# Altium schematic symbol library Трансформаторы импульсные (открытого исполнения).SCHLIB: 37 symbols
Pins are listed as number, name and electrical type; pins without a type are passive.

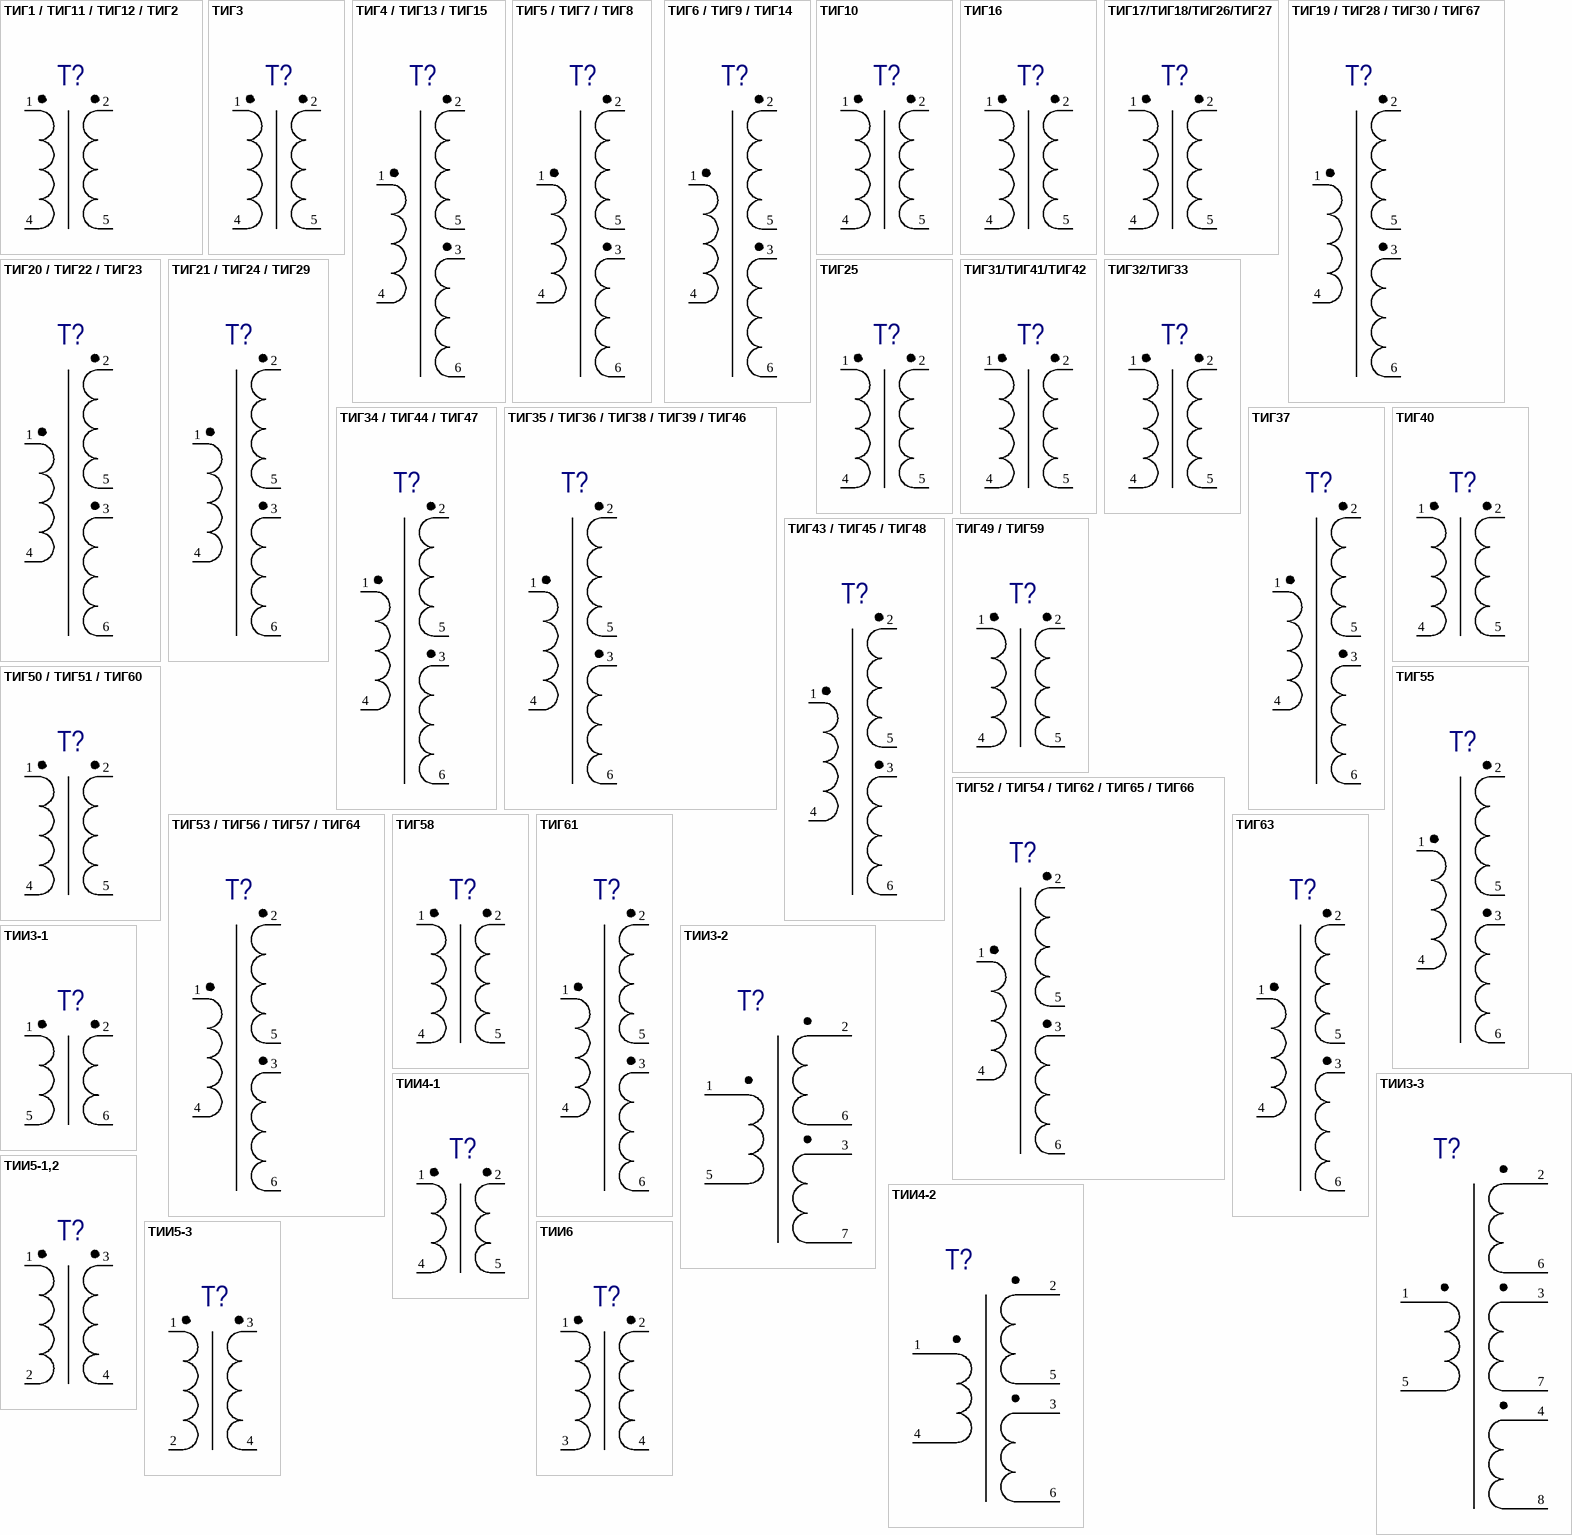
[diagram p0: symbols ТИГ1 / ТИГ11 / ТИГ12 / ТИГ2 to ТИИ6]

## ТИГ1 / ТИГ11 / ТИГ12 / ТИГ2
designator T?
Коэф.трансф-и: 1/0,5/0,335/0,5; Manufacturer: ПАО  «МСТАТОР»; ManufacturerCountry: Россия; Value: {Value}; Наименование элемента: ТИГ; Category: Трансформатор импульсный; ComponentLink1Description: Manufacturer Link; ComponentHeight: 1,8 мм
footprint ТИГ1/ТИГ11/ТИГ12/ТИГ2 (4,2x4,2x1,8, 0.05g)
pins: 1, 2, 4, 5

## ТИГ3
designator T?
Коэф.трансф-и: 0,335; Manufacturer: ПАО  «МСТАТОР»; ManufacturerCountry: Россия; Value: {Value}; Наименование элемента: ТИГ 3; Category: Трансформатор импульсный; ComponentLink1Description: Manufacturer Link; ComponentHeight: 1,6 мм
footprint ТИГ 3 (4x4x1.6, 0.05g)
pins: 1, 2, 4, 5

## ТИГ4 / ТИГ13 / ТИГ15
designator T?
Коэф.трансф-и: 1,0;0,1/0,5;0,5/0,67;0,335; Manufacturer: ПАО  «МСТАТОР»; ManufacturerCountry: Россия; Value: {Value}; Наименование элемента: ТИГ; Category: Трансформатор импульсный; ComponentLink1Description: Manufacturer Link; ComponentHeight: 2,0 мм
footprint ТИГ4/ТИГ13/ТИГ15 (4,3x4,3x2,0, 0.06g)
pins: 1, 2, 3, 4, 5, 6

## ТИГ5 / ТИГ7 / ТИГ8
designator T?
Коэф.трансф-и: 0,5;0,5/0,335;0,335/0,67;0,335; Manufacturer: ПАО  «МСТАТОР»; ManufacturerCountry: Россия; Value: {Value}; Наименование элемента: ТИГ; Category: Трансформатор импульсный; ComponentLink1Description: Manufacturer Link; ComponentHeight: 1,8 мм
footprint ТИГ5/ТИГ7/ТИГ8 (4,2x4,2x1,8, 0.05g)
pins: 1, 2, 3, 4, 5, 6

## ТИГ6 / ТИГ9 / ТИГ14
designator T?
Коэф.трансф-и: 1,0;0,5/1,0;0,335/0,335;0,335; Manufacturer: ПАО  «МСТАТОР»; ManufacturerCountry: Россия; Value: {Value}; Наименование элемента: ТИГ; Category: Трансформатор импульсный; ComponentLink1Description: Manufacturer Link; ComponentHeight: 2,0 мм
footprint ТИГ6/ТИГ9/ТИГ14 (4,2x4,2x2,0, 0.06g)
pins: 1, 2, 3, 4, 5, 6

## ТИГ10
designator T?
Коэф.трансф-и: 1,0; Manufacturer: ПАО  «МСТАТОР»; ManufacturerCountry: Россия; Value: {Value}; Наименование элемента: ТИГ 10; Category: Трансформатор импульсный; ComponentLink1Description: Manufacturer Link; ComponentHeight: 2,0 мм
footprint ТИГ10 (4,3x4,3x2,0, 0.06g)
pins: 1, 2, 4, 5

## ТИГ16
designator T?
Коэф.трансф-и: 1,0; Manufacturer: ПАО  «МСТАТОР»; ManufacturerCountry: Россия; Value: {Value}; Наименование элемента: ТИГ16; Category: Трансформатор импульсный; ComponentLink1Description: Manufacturer Link; ComponentHeight: 2,1 мм
footprint ТИГ16 (4,2x4,2x2,1, 0.06g)
pins: 1, 2, 4, 5

## ТИГ17/ТИГ18/ТИГ26/ТИГ27
designator T?
Коэф.трансф-и: 0,5/0,335/0,5/0,335; Manufacturer: ПАО  «МСТАТОР»; ManufacturerCountry: Россия; Value: {Value}; Наименование элемента: ТИГ; Category: Трансформатор импульсный; ComponentLink1Description: Manufacturer Link; ComponentHeight: 2,1 мм
footprint ТИГ17/ТИГ18/ТИГ26/ТИГ27 (4,2x4,2x2,1, 0.06g)
pins: 1, 2, 4, 5

## ТИГ19 / ТИГ28 / ТИГ30 / ТИГ67
designator T?
Коэф.трансф-и: 1,0;1,0/0,5;0,5/0,67;0,335/0,167:0,167; Manufacturer: ПАО  «МСТАТОР»; ManufacturerCountry: Россия; Value: {Value}; Наименование элемента: ТИГ; Category: Трансформатор импульсный; ComponentLink1Description: Manufacturer Link; ComponentHeight: 2,3 мм
footprint ТИГ19/ТИГ28/ТИГ30/ТИГ67 (4,3x4,3x2,3, 0.08g)
pins: 1, 2, 3, 4, 5, 6

## ТИГ20 / ТИГ22 / ТИГ23
designator T?
Коэф.трансф-и: 0.5;0,5/0.335;0,335/0,67;0,335; Manufacturer: ПАО  «МСТАТОР»; ManufacturerCountry: Россия; Value: {Value}; Наименование элемента: ТИГ; Category: Трансформатор импульсный; ComponentLink1Description: Manufacturer Link; ComponentHeight: 2,1 мм
footprint ТИГ20/ТИГ22/ТИГ23 (4,2x4,2x2,1, 0.06g)
pins: 1, 2, 3, 4, 5, 6

## ТИГ21 / ТИГ24 / ТИГ29
designator T?
Коэф.трансф-и: 1,0;0,5/1,0;0,335/0,335;0,335; Manufacturer: ПАО  «МСТАТОР»; ManufacturerCountry: Россия; Value: {Value}; Наименование элемента: ТИГ; Category: Трансформатор импульсный; ComponentLink1Description: Manufacturer Link; ComponentHeight: 2,2 мм
footprint ТИГ21/ТИГ24/ТИГ29 (4,2x4,2x2,2, 0.08g)
pins: 1, 2, 3, 4, 5, 6

## ТИГ25
designator T?
Коэф.трансф-и: 1,0; Manufacturer: ПАО  «МСТАТОР»; ManufacturerCountry: Россия; Value: {Value}; Наименование элемента: ТИГ25; Category: Трансформатор импульсный; ComponentLink1Description: Manufacturer Link; ComponentHeight: 2,3 мм
footprint ТИГ25 (4,3x4,3x2,3, 0.08g)
pins: 1, 2, 4, 5

## ТИГ31/ТИГ41/ТИГ42
designator T?
Коэф.трансф-и: 1,0/0,5/0,335; Manufacturer: ПАО  «МСТАТОР»; ManufacturerCountry: Россия; Value: {Value}; Наименование элемента: ТИГ; Category: Трансформатор импульсный; ComponentLink1Description: Manufacturer Link; ComponentHeight: 2,4 мм
footprint ТИГ31/ТИГ41/ТИГ42 (5,4x5,4x2,4, 0.12g)
pins: 1, 2, 4, 5

## ТИГ32/ТИГ33
designator T?
Коэф.трансф-и: 0,5/0,335; Manufacturer: ПАО  «МСТАТОР»; ManufacturerCountry: Россия; Value: {Value}; Наименование элемента: ТИГ; Category: Трансформатор импульсный; ComponentLink1Description: Manufacturer Link; ComponentHeight: 2,2 мм
footprint ТИГ32/ТИГ33 (5,4x5,4x2,2, 0.12g)
pins: 1, 2, 4, 5

## ТИГ34 / ТИГ44 / ТИГ47
designator T?
Коэф.трансф-и: 1,0;1,0/0,5;0,5/0,67;0,335; Manufacturer: ПАО  «МСТАТОР»; ManufacturerCountry: Россия; Value: {Value}; Наименование элемента: ТИГ; Category: Трансформатор импульсный; ComponentLink1Description: Manufacturer Link; ComponentHeight: 2,5 мм
footprint ТИГ34/ТИГ44/ТИГ47 (5,6x5,6x2,5, 0.12g)
pins: 1, 2, 3, 4, 5, 6

## ТИГ35 / ТИГ36 / ТИГ38 / ТИГ39 / ТИГ46
designator T?
Коэф.трансф-и: 0,5;0,5/1,0;0,5/0,67;0,335/1,0:0,335/0,335;0,335; Manufacturer: ПАО  «МСТАТОР»; ManufacturerCountry: Россия; Value: {Value}; Наименование элемента: ТИГ; Category: Трансформатор импульсный; ComponentLink1Description: Manufacturer Link; ComponentHeight: 2,4 мм
footprint ТИГ35/ТИГ36/ТИГ38/ТИГ39/ТИГ46 (5,4x5,4x2,4, 0.12g)
pins: 1, 2, 3, 4, 5, 6

## ТИГ37
designator T?
Коэф.трансф-и: 0,335/0,335; Manufacturer: ПАО  «МСТАТОР»; ManufacturerCountry: Россия; Value: {Value}; Наименование элемента: ТИГ; Category: Трансформатор импульсный; ComponentLink1Description: Manufacturer Link; ComponentHeight: 2,2 мм
footprint ТИГ37 (5,4x5,4x2,2, 0.12g)
pins: 1, 2, 3, 4, 5, 6

## ТИГ40
designator T?
Коэф.трансф-и: 1,0; Manufacturer: ПАО  «МСТАТОР»; ManufacturerCountry: Россия; Value: {Value}; Наименование элемента: ТИГ; Category: Трансформатор импульсный; ComponentLink1Description: Manufacturer Link; ComponentHeight: 2,5 мм
footprint ТИГ40 (5,6x5,6x2,5, 0.12g)
pins: 1, 2, 4, 5

## ТИГ43 / ТИГ45 / ТИГ48
designator T?
Коэф.трансф-и: 1,0;1,0/1,0;0,5/1,0;0,335; Manufacturer: ПАО  «МСТАТОР»; ManufacturerCountry: Россия; Value: {Value}; Наименование элемента: ТИГ; Category: Трансформатор импульсный; ComponentLink1Description: Manufacturer Link; ComponentHeight: 2,6 мм
footprint ТИГ43/ТИГ45/ТИГ48 (5,6x5,6x2,6, 0.15g)
pins: 1, 2, 3, 4, 5, 6

## ТИГ49 / ТИГ59
designator T?
Коэф.трансф-и: 1,0/0,5; Manufacturer: ПАО  «МСТАТОР»; ManufacturerCountry: Россия; Value: {Value}; Наименование элемента: ТИГ; Category: Трансформатор импульсный; ComponentLink1Description: Manufacturer Link; ComponentHeight: 2,5 мм
footprint ТИГ49/ТИГ59 (6,4x6,4x2,5, 0.18g)
pins: 1, 2, 4, 5

## ТИГ50 / ТИГ51 / ТИГ60
designator T?
Коэф.трансф-и: 0,5/0,335/0,335; Manufacturer: ПАО  «МСТАТОР»; ManufacturerCountry: Россия; Value: {Value}; Наименование элемента: ТИГ; Category: Трансформатор импульсный; ComponentLink1Description: Manufacturer Link; ComponentHeight: 2,4 мм
footprint ТИГ50/ТИГ51/ТИГ60 (6,4x6,4x2,4, 0.18g)
pins: 1, 2, 4, 5

## ТИГ52 / ТИГ54 / ТИГ62 / ТИГ65 / ТИГ66
designator T?
Коэф.трансф-и: 1,0;1,0/1,0;0,5/0,5;0,5/0,67:0,335/1,0:0,335; Manufacturer: ПАО  «МСТАТОР»; ManufacturerCountry: Россия; Value: {Value}; Наименование элемента: ТИГ; Category: Трансформатор импульсный; ComponentLink1Description: Manufacturer Link; ComponentHeight: 2,6 мм
footprint ТИГ52/ТИГ54/ТИГ62/ТИГ65/ТИГ66 (6,5x6,5x2,6, 0.2g)
pins: 1, 2, 3, 4, 5, 6

## ТИГ53 / ТИГ56 / ТИГ57 / ТИГ64
designator T?
Коэф.трансф-и: 0,5;0,5/0,67;0,335/1,0;0,335/0,335:0,335; Manufacturer: ПАО  «МСТАТОР»; ManufacturerCountry: Россия; Value: {Value}; Наименование элемента: ТИГ; Category: Трансформатор импульсный; ComponentLink1Description: Manufacturer Link; ComponentHeight: 2,5 мм
footprint ТИГ53/ТИГ56/ТИГ57/ТИГ64 (6,4x6,4x2,5, 0.18g)
pins: 1, 2, 3, 4, 5, 6

## ТИГ55
designator T?
Коэф.трансф-и: 0,335/0,335; Manufacturer: ПАО  «МСТАТОР»; ManufacturerCountry: Россия; Value: {Value}; Наименование элемента: ТИГ55; Category: Трансформатор импульсный; ComponentLink1Description: Manufacturer Link; ComponentHeight: 2,4 мм
footprint ТИГ55 (6,4x6,4x2,4, 0.18g)
pins: 1, 2, 3, 4, 5, 6

## ТИГ58
designator T?
Коэф.трансф-и: 1,0; Manufacturer: ПАО  «МСТАТОР»; ManufacturerCountry: Россия; Value: {Value}; Наименование элемента: ТИГ58; Category: Трансформатор импульсный; ComponentLink1Description: Manufacturer Link; ComponentHeight: 2,6 мм
footprint ТИГ58 (6,5x6,5x2,6, 0.2g)
pins: 1, 2, 4, 5

## ТИГ61
designator T?
Коэф.трансф-и: 1,0/1,0; Manufacturer: ПАО  «МСТАТОР»; ManufacturerCountry: Россия; Value: {Value}; Наименование элемента: ТИГ61; Category: Трансформатор импульсный; ComponentLink1Description: Manufacturer Link; ComponentHeight: 2,8 мм
footprint ТИГ61 (6,6x6,6x2,8, 0.22g)
pins: 1, 2, 3, 4, 5, 6

## ТИГ63
designator T?
Коэф.трансф-и: 1,0/0,5; Manufacturer: ПАО  «МСТАТОР»; ManufacturerCountry: Россия; Value: {Value}; Наименование элемента: ТИГ63; Category: Трансформатор импульсный; ComponentLink1Description: Manufacturer Link; ComponentHeight: 2,8 мм
footprint ТИГ63 (6,5x6,5x2,8, 0.2g)
pins: 1, 2, 3, 4, 5, 6

## ТИИ3-1
designator T?
2 обмотки; Manufacturer: ПАО  «МСТАТОР»; ManufacturerCountry: Россия; Value: {Value}; Наименование элемента: ТИИ3; Category: Трансформатор импульсный; ComponentLink1Description: Manufacturer Link
footprint ТИИ3-1-4 (4,2x4,2x1,7, 0.12g)
footprint ТИИ3-2-4 (5,2x5,2x1,7, 0.15g)
footprint ТИИ3-3-4 (6,5x6,5x1,8, 0.25g)
footprint ТИИ3-4-4 (7,5x7,5x1,8, 0.4g)
footprint ТИИ3-5-4 (8,5x8,5x2,0, 0.6g)
pins: 1, 2, 5, 6

## ТИИ3-2
designator Т?
3 обмотки; Manufacturer: ПАО  «МСТАТОР»; ManufacturerCountry: Россия; Value: {Value}; Наименование элемента: ТИИ3; Category: Трансформатор; ComponentLink1Description: Manufacturer Link
footprint ТИИ3-1-6 (4,2x4,2x1,7, 0.12g)
footprint ТИИ3-2-6 (5,2x5,2x1,7, 0.15g)
footprint ТИИ3-3-6 (6,5x6,5x1,8, 0.25g)
footprint ТИИ3-4-6 (7,5x7,5x1,8, 0.4g)
footprint ТИИ3-5-6 (8,5x8,5x2,0, 0.6g)
pins: 1, 2, 3, 5, 6, 7 6

## ТИИ3-3
designator Т?
4 обмотки; Manufacturer: ПАО  «МСТАТОР»; ManufacturerCountry: Россия; Value: {Value}; Наименование элемента: ТИИ3; Category: Трансформатор; ComponentLink1Description: Manufacturer Link
footprint ТИИ3-1-8 (4,2x4,2x1,7, 0.12g)
footprint ТИИ3-2-8 (5,2x5,2x1,7, 0.15g)
footprint ТИИ3-3-8 (6,5x6,5x1,8, 0.25g)
footprint ТИИ3-4-8 (7,5x7,5x1,8, 0.4g)
footprint ТИИ3-5-8 (8,5x8,5x2,0, 0.6g)
pins: 1, 2, 3, 4, 5, 6, 7, 8

## ТИИ4-1
designator T?
2 обмотки; Manufacturer: ПАО  «МСТАТОР»; ManufacturerCountry: Россия; Value: {Value}; Наименование элемента: ТИИ4; Category: Трансформатор импульсный; ComponentLink1Description: Manufacturer Link
footprint ТИИ4-4 d=4 (4x4x2,4max, 0.1g max)
footprint ТИИ4-4 d=5.1 (5,1x5,1x2,5max, 0.2g max)
footprint ТИИ4-4 d=5.3 (5,3x5,3x2,7max, 0.2g max)
footprint ТИИ4-4 d=6.3 (6,3x6,3x2,9max, 0.3g max)
pins: 1, 2, 4, 5

## ТИИ4-2
designator Т?
3 обмотки; Manufacturer: ПАО  «МСТАТОР»; ManufacturerCountry: Россия; Value: {Value}; Наименование элемента: ТИИ4; Category: Трансформатор; ComponentLink1Description: Manufacturer Link
footprint ТИИ4-6 d=4 (4x4x2,4max, 0.1g max)
footprint ТИИ4-6 d=5.1 (5,1x5,1x2,5max, 0.2g max)
footprint ТИИ4-6 d=5.3 (5,3x5,3x2,7max, 0.2g max)
footprint ТИИ4-6 d=6.3 (6,3x6,3x2,9max, 0.3g max)
pins: 1, 2, 3, 4, 5, 6

## ТИИ5-1,2
designator T?
Коэф.тран-ции: 1,0; Manufacturer: ПАО  «МСТАТОР»; ManufacturerCountry: Россия; Value: {Value}; Наименование элемента: ТИИ5; Category: Трансформатор импульсный; ComponentLink1Description: Manufacturer Link; ComponentHeight: 4max
footprint ТИИ5-1,2 (8,6x8,6x4, 1g)
pins: 1, 2, 3, 4

## ТИИ5-3
designator T?
Коэф.тран-ции: 1,0; Manufacturer: ПАО  «МСТАТОР»; ManufacturerCountry: Россия; Value: {Value}; Наименование элемента: ТИИ5; Category: Трансформатор импульсный; ComponentLink1Description: Manufacturer Link; ComponentHeight: 4max
footprint ТИИ5-3 (5x5x4, 0,5g)
pins: 1, 2, 3, 4

## ТИИ6
designator T?
Коэф.тран-ции: 1,0; Manufacturer: ПАО  «МСТАТОР»; ManufacturerCountry: Россия; Value: {Value}; Наименование элемента: ТИИ6; Category: Трансформатор импульсный; ComponentLink1Description: Manufacturer Link; ComponentHeight: 1.5max
footprint ТИИ6 (3,7x3,7x1,5, 0,1g)
pins: 1, 2, 3, 4

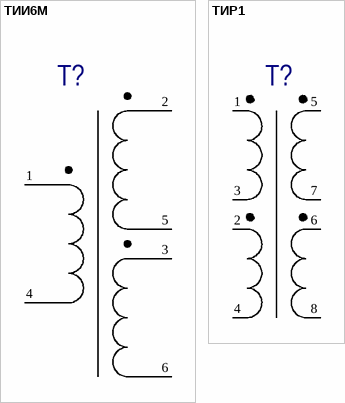
[diagram p1: symbols ТИИ6М to ТИР1]

## ТИИ6М
designator Т?
Коэф.тран-ции: 1,0 ; 1,0; Manufacturer: ПАО  «МСТАТОР»; ManufacturerCountry: Россия; Value: {Value}; Наименование элемента: ТИИ6М; Category: Трансформатор; ComponentLink1Description: Manufacturer Link; ComponentHeight: 2,1мм
footprint ТИИ6М (4x4x2,1, 0,1g)
pins: 1, 2, 3, 4, 5, 6

## ТИР1
designator T?
Коэф.трансф-и: 0,167/0,167; Manufacturer: ПАО  «МСТАТОР»; ManufacturerCountry: Россия; Value: {Value}; Наименование элемента: ТИР1; Category: Трансформатор импульсный; ComponentLink1Description: Manufacturer Link; ComponentHeight: 2,2 мм
footprint ТИР1 (8,5х8,5х2,2max, 0.6g)
pins: 1, 2, 3, 4, 5, 6, 7, 8